# Altium schematic symbol library PCB_Project1.SCHLIB: 6 symbols
Pins are listed as number, name and electrical type; pins without a type are passive.

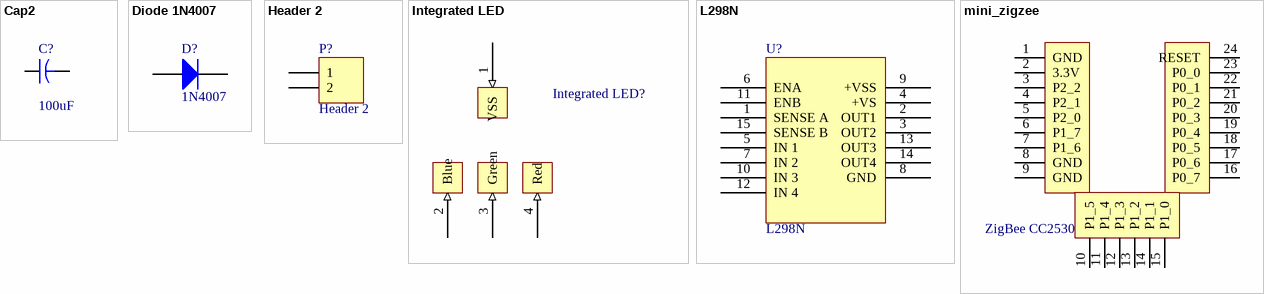
[diagram p0: symbols Cap2 to mini_zigzee]

## Cap2
designator C?  value 100uF
Capacitor; Published: 23-Sep-2002; PackageReference: CAPR5-4X5; Publisher: Altium Limited
footprint CAPR5-4X5 (Capacitor; 2 Leads)
simulation model CAP (Capacitor)
signal-integrity model Cap
pins: 1, 2

## Diode 1N4007
designator D?, comment 1N4007
1 Amp General Purpose Rectifier; Published: 8-Jun-2000; LatestRevisionDate: 17-Jul-2002; LatestRevisionNote: Re-released for DXP Platform.; DatasheetDocument: 1998; PackageDocument: Aug-1999; PackageReference: DO-41; Publisher: Altium Limited; Code_JEDEC: DO-204-AL; ComponentLink1Description: Manufacturer Link; ComponentLink1URL: http://www.fairchildsemi.com/; ComponentLink2Description: Datasheet; ComponentLink2URL: http://www.fairchildsemi.com/ds/1N%2F1N4001.pdf
footprint DO-41 (Diode, Axial; Body 5.2 x 2.7 mm (LxDia. max), Lead Dia. 0.86 mm (max))
simulation model 1N4007 (DIODE)
signal-integrity model 1N4007
pins: 1 A, 2 K

## Header 2
designator P?
Header, 2-Pin; LatestRevisionDate: 17-Jul-2002; LatestRevisionNote: Re-released for DXP Platform.; Publisher: Altium Limited
footprint HDR1X2 (Connector; Header; 2 Position)
signal-integrity model Connector
pins: 1, 2

## Integrated LED
designator Integrated LED?  (value not drawn)
footprint PCBComponent_1
pins: 1 VSS (in), 2 Blue (in), 3 Green (in), 4 Red (in)

## L298N
designator U?
footprint L298N - duplicate
pins: 1 SENSE A, 2 OUT1, 3 OUT2, 4 +VS, 5 IN 1, 6 ENA, 7 IN 2, 8 GND, 9 +VSS, 10 IN 3, 11 ENB, 12 IN 4, 13 OUT3, 14 OUT4, 15 SENSE B

## mini_zigzee
designator *U?, comment ZigBee CC2530
footprint mini_zigbee (zigbee)
pins: 1 GND, 2 3.3V, 3 P2_2, 4 P2_1, 5 P2_0, 6 P1_7, 7 P1_6, 8 GND, 9 GND, 10 P1_5, 11 P1_4, 12 P1_3, 13 P1_2, 14 P1_1, 15 P1_0, 16 P0_7, 17 P0_6, 18 P0_5, 19 P0_4, 20 P0_3, 21 P0_2, 22 P0_1, 23 P0_0, 24 RESET